# EAGLE library part MSGEQ7 (library lightsuits)
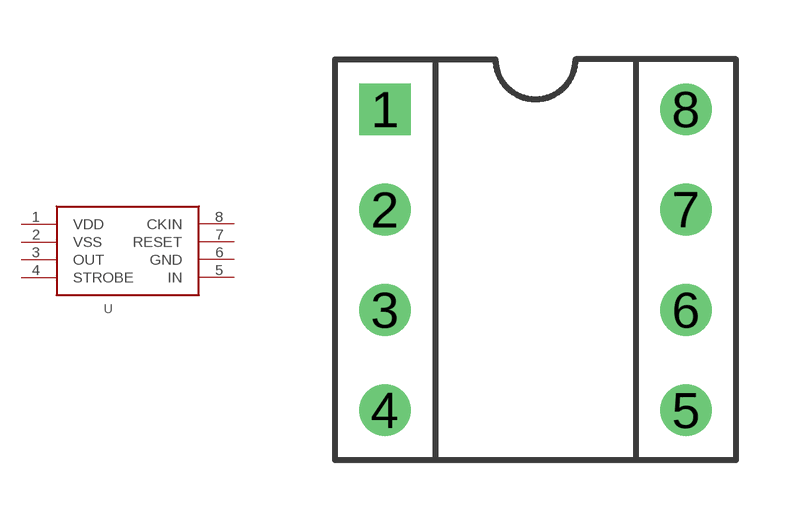
[diagram p4: symbol with the pads of DIP8; footprint DIP8]

Designator prefix -

## MSGEQ7  [DIP8]
1  VDD
2  VSS
3  OUT
4  STROBE
5  IN
6  GND
7  RESET
8  CKIN

## Footprint DIP8 (pad centres in mm)
drill 0.8 square: 1 0,0
drill 0.8: 2 0,-2.54; 3 0,-5.08; 4 0,-7.62; 5 7.62,-7.62; 6 7.62,-5.08; 7 7.62,-2.54; 8 7.62,0